# Altium integrated library DILB20P-223TLF.IntLib: 1 symbol
Pins are listed as number, name and electrical type; pins without a type are passive.

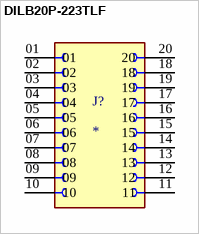
[diagram p0: symbol DILB20P-223TLF]

## DILB20P-223TLF
designator J?
20 (2 x 10) Pos DIP, 0.3 (7.62mm) Row Spacing Socket Tin Through Hole; MP: DILB20P-223TLF; MF: FCI; Purchase-URL: https://pricing.snapeda.com/search/part/DILB20P-223TLF/?ref=eda; Package: None; Check_prices: https://www.snapeda.com/parts/DILB20P-223TLF/Amphenol+FCI/view-part/?ref=eda; Price: None; SnapEDA_Link: https://www.snapeda.com/parts/DILB20P-223TLF/Amphenol+FCI/view-part/?ref=snap; Availability: In Stock; Value: *
footprint AMPHENOL_DILB20P-223TLF
pins: 01, 02, 03, 04, 05, 06, 07, 08, 09, 10, 11, 12, 13, 14, 15, 16, 17, 18, 19, 20